# EAGLE library part MAX13444EASA+ (library customics)
±15kV ESD-Protected, ±80V Fault-Protected, Fail-Safe RS-485/J1708 Transceivers Source http://www.mouser.com/ds/2/256/MAX13442E-MAX13444E-103611.pdf
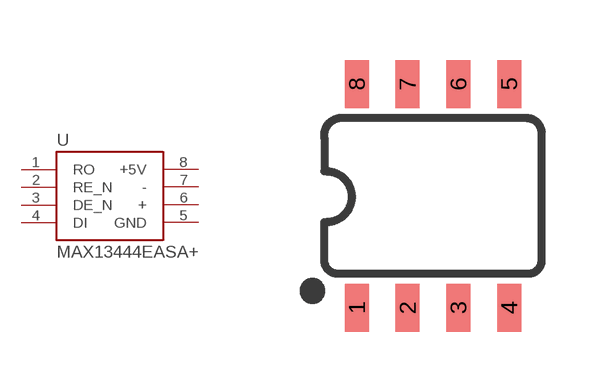
[diagram p0: symbol with the pads of SO08; footprint SO08]

Designator prefix U

## MAX13444EASA+SMD (PROD_ID: IC-09714; VALUE: 24LC256)  [SO08]
1  RO
2  RE_N
3  DE_N
4  DI  pwr
5  GND
6  +
7  -
8  +5V  pwr

## Footprint SO08 (pad centres in mm)
SOIC, 0.15 inch width
smd 0.6 x 1.2: 1 -1.905,-2.8; 2 -0.635,-2.8; 3 0.635,-2.8; 4 1.905,-2.8; 5 1.905,2.8; 6 0.635,2.8; 7 -0.635,2.8; 8 -1.905,2.8